# EAGLE library part USB-AB (library we-con)
USB Connector with ID-Pin (5 Pins)
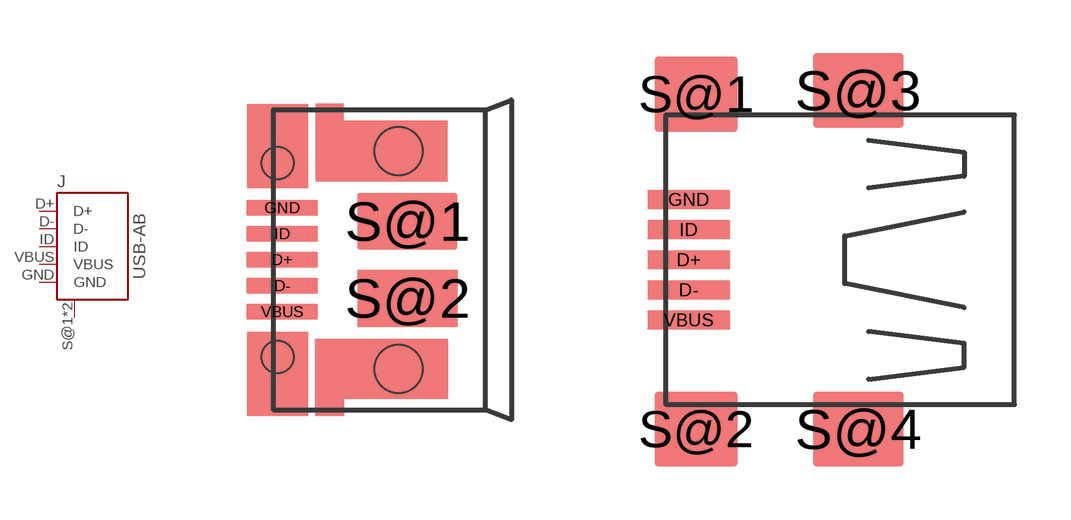
[diagram p35: symbol with the pads of USB-MICROB-10103594; footprints USB-MICROB-10103594, USB-MINIB-S]

Designator prefix J

## USB-AB-MICROB (DIGIKEY: 609-4050-6-ND)  [USB-MICROB-10103594]
D+  D+
D-  D-
GND  GND  pwr
ID  ID
S@1  SHIELD  pas
S@2  SHIELD  pas
VBUS  VBUS  pwr

## USB-AB-MINIB-S  [USB-MINIB-S]
D+  D+
D-  D-
GND  GND  pwr
ID  ID
S@1  SHIELD  pas
S@2  SHIELD  pas
S@3  SHIELD  pas
S@4  SHIELD  pas
VBUS  VBUS  pwr

## USB-AB-MICROB-2 (DIGIKEY: 609-4618-6-ND)  [USB-MICROB-10118194]
D+  D+
D-  D-
GND  GND  pwr
ID  ID
S@1  SHIELD  pas
S@2  SHIELD  pas
S@3  SHIELD  pas
S@4  SHIELD  pas
S@5  SHIELD  pas
S@6  SHIELD  pas
S@7  SHIELD  pas
S@8  SHIELD  pas
VBUS  VBUS  pwr

## USB-AB-MICROB-UP (DIGIKEY: WM10134DKR-ND)  [USB-MICROB-1051330011]
D+  D+
D-  D-
GND  GND  pwr
ID  ID
S@1  SHIELD  pas
S@2  SHIELD  pas
S@3  SHIELD  pas
VBUS  VBUS  pwr

## Footprint USB-MICROB-10103594 (pad centres in mm)
USB Micro-B Surface Mounted FCI 10103594-0001LF
smd 1.8 x 0.4: D+ -2.885,0; D- -2.885,-0.65; GND -2.885,1.3; ID -2.885,0.65; VBUS -2.885,-1.3
smd 2.5 x 1.425: S@1 0.25,0.963; S@2 0.25,-0.963
hole 0.8 at -3,2.425
hole 1.2 at 0.03,2.725
hole 0.8 at -3,-2.425
hole 1.2 at 0.03,-2.725

## Footprint USB-MINIB-S (pad centres in mm)
USB Mini-B Surface Mounted
smd 2.2 x 0.5: D+ -2.7,0; D- -2.7,-0.8; GND -2.7,1.6; ID -2.7,0.8; VBUS -2.7,-1.6
smd 2.2 x 2: S@1 -2.5,4.4; S@2 -2.5,-4.5
smd 2.4 x 2: S@3 1.8,4.5; S@4 1.8,-4.5

## Footprint USB-MICROB-10118194 (pad centres in mm)
USB Micro-B Surface Mounted FCI 10118194-0001LF
smd 1.3 x 0.4: D+ -2.5,0; D- -2.5,-0.65; GND -2.5,1.3; ID -2.5,0.65; VBUS -2.5,-1.3
drill 0.6 pad 1.2: S@1 -2.55,2.55; S@2 -2.55,-2.55
drill 0.5 pad 0.8 long: S@3 0.15,3.5; S@4 0.15,-3.5
smd 1.5 x 1.1: S@5 0.15,2.85; S@6 0.15,-2.85
smd 1.5 x 1.5: S@7 0.15,1; S@8 0.15,-1

## Footprint USB-MICROB-1051330011 (pad centres in mm)
USB Micro-B Surface Mounted Up Molex 1051330011
smd 1.6 x 0.4: D+ -1.85,0; D- -1.85,-0.65; GND -1.85,1.3; ID -1.85,0.65; VBUS -1.85,-1.3
drill 0.5 pad 1 long: S@1 -2.15,2.8; S@2 -2.15,-2.8
drill 0.5 pad 1.1 long: S@3 0,0